# Altium integrated library an205x_evb.IntLib: 3 symbols
Pins are listed as number, name and electrical type; pins without a type are passive.

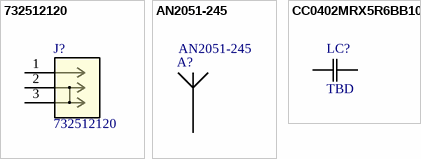
[diagram p0: symbols 732512120 to CC0402MRX5R6BB106]

## 732512120
designator J?
No Description Available; Mfr_Name: Molex Connector Corporation; Copyright: Copyright (C) 2022 Ultra Librarian. All rights reserved.; Manufacturer_Part_Number: 732512120; RefDes: RefDes; Type: DEV
footprint CONN-732513152_MOL
pins: 1, 2, 3

## AN2051-245
designator A?
No Description Available; Mfr_Name: RainSun; Copyright: Copyright (C) 2022 Ultra Librarian. All rights reserved.; Manufacturer_Part_Number: AN2051-245
footprint ANT_AN2051-245_RSN
pins: 1

## CC0402MRX5R6BB106
designator LC?, comment TBD
Mfr_Name: Yageo; Manufacturer_Part_Number: CC0402MRX5R6BB106; Copyright: Copyright (C) 2022 Ultra Librarian. All rights reserved.; RefDes: RefDes; Type: DEV
footprint CAP_CC0402_YAG
pins: 1, 2